# EAGLE library part 32X32MATRIX_DEV (library Matrix)
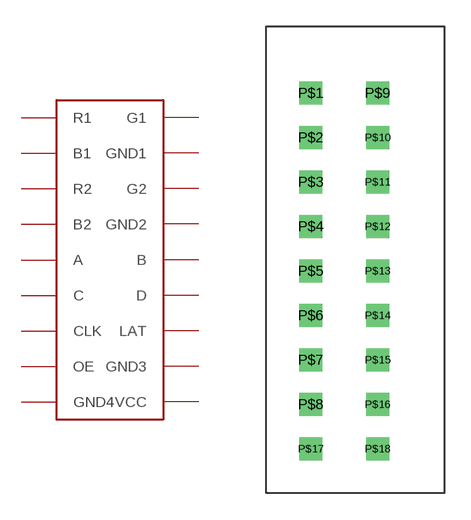
[diagram p0: symbol with the pads of 32X32MATRIX_PACK; footprint 32X32MATRIX_PACK]

Designator prefix -

## 32X32MATRIX_DEV  [32X32MATRIX_PACK]
P$1  G1
P$2  A
P$3  B
P$4  B1
P$5  B2
P$6  C
P$7  CLK
P$8  D
P$9  G2
P$10  GND1
P$11  GND2
P$12  GND3
P$13  LAT
P$14  OE
P$15  R1
P$16  R2
P$17  GND4
P$18  VCC

## Footprint 32X32MATRIX_PACK (pad centres in mm)
drill 0.8 square: P$1 -3.81,5.08; P$2 -3.81,2.54; P$3 -3.81,0; P$4 -3.81,-2.54; P$5 -3.81,-5.08; P$6 -3.81,-7.62; P$7 -3.81,-10.16; P$8 -3.81,-12.7; P$9 0,5.08; P$10 0,2.54; P$11 0,0; P$12 0,-2.54; P$13 0,-5.08; P$14 0,-7.62; P$15 0,-10.16; P$16 0,-12.7; P$17 -3.81,-15.24; P$18 0,-15.24